# Altium schematic symbol library MKW10XX.SchLib: 1 symbol
Pins are listed as number, name and electrical type; pins without a type are passive.

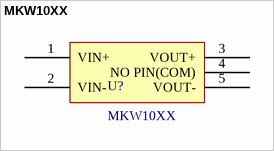
[diagram p0: symbol MKW10XX]

## MKW10XX
designator U?
pins: 1 VIN+, 2 VIN-, 3 VOUT+, 4 NO PIN(COM), 5 VOUT-